# Altium integrated library LoRa Modules.IntLib: 2 symbols
Pins are listed as number, name and electrical type; pins without a type are passive.

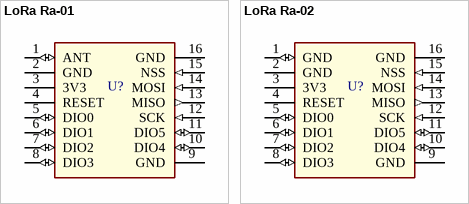
[diagram p0: symbols LoRa Ra-01 to LoRa Ra-02]

## LoRa Ra-01
designator U?  (value not drawn)
LoRa module based on SX1278 IC Transceiver
footprint LoRa Ra-01 (Transceiver)
pins: 1 ANT (io), 2 GND (power), 3 3V3 (power), 4 RESET (power), 5 DIO0 (io), 6 DIO1 (io), 7 DIO2 (io), 8 DIO3 (io), 9 GND (power), 10 DIO4 (io), 11 DIO5 (io), 12 SCK (in), 13 MISO (out), 14 MOSI (in), 15 NSS (in), 16 GND (power)

## LoRa Ra-02
designator U?  (value not drawn)
LoRa module based on SX1278 IC Transceiver
footprint LoRa Ra-02 (Transceiver)
pins: 1 GND (io), 2 GND (power), 3 3V3 (power), 4 RESET (power), 5 DIO0 (io), 6 DIO1 (io), 7 DIO2 (io), 8 DIO3 (io), 9 GND (power), 10 DIO4 (io), 11 DIO5 (io), 12 SCK (in), 13 MISO (out), 14 MOSI (in), 15 NSS (in), 16 GND (power)